# Altium footprint library Ahrist_Library.PcbLib: 172 footprints (part 6 of 11)
Each footprint in its own frame and in the unit in brackets; x right, y up, seen from the top. Pads: shape width x height; smd on the part's side, far side on the other; paste and mask are expansions set on the pad; w line width, h text height; cw(c..) or ccw(c..) is an arc to the next point about the centre after c.
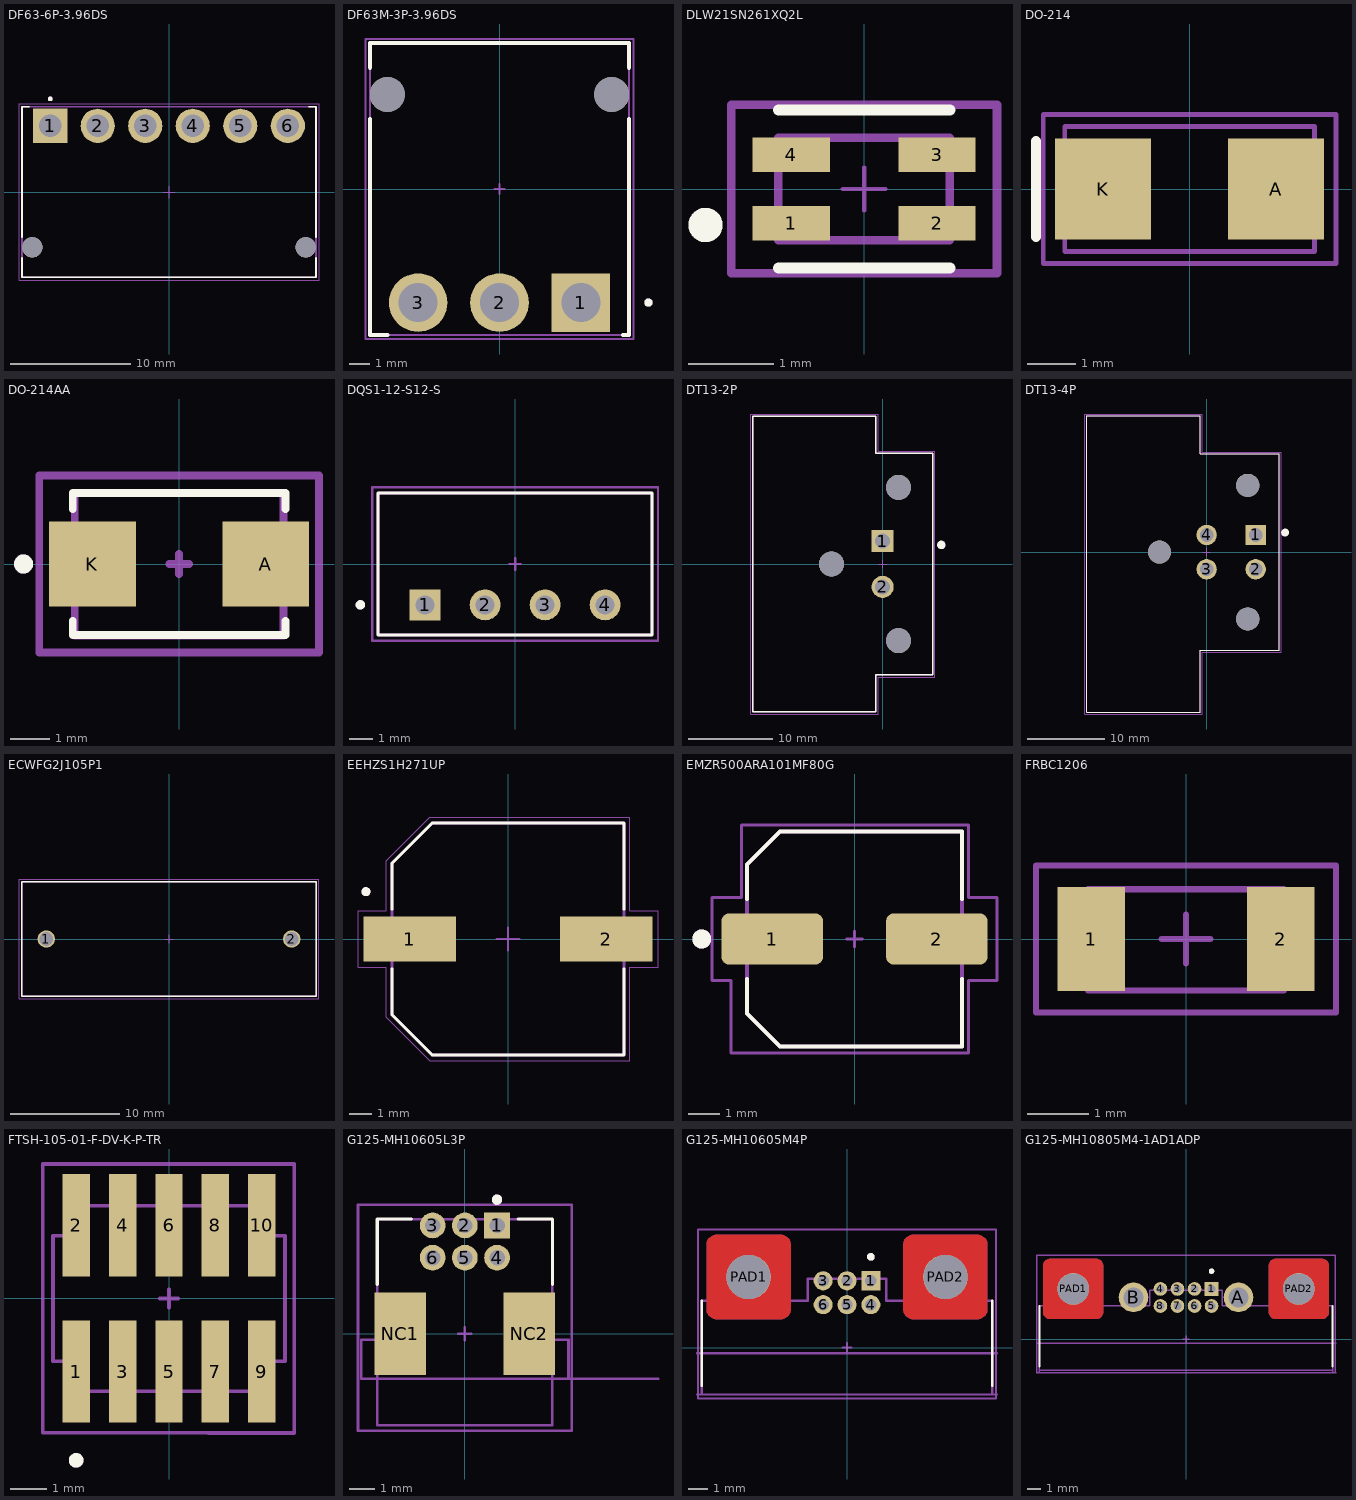
[diagram p5: the footprints below, top view; thin cyan lines are the x and y axes]

## DF63-6P-3.96DS [mm] "Connector Header Through Hole, Right Angle 6 position 0.156\" (3.96mm)"
pads (8):
  rect 2.85x2.85 / inner round 2.85 / far side rect 2.85x2.85 hole 1.9: 1(-9.9,5.53)
  round 2.85 hole 1.9: 2(-5.94,5.53) 3(-1.98,5.53) 4(1.98,5.53) 5(5.94,5.53) 6(9.9,5.53)
  round 1.7 hole 1.7 unplated: ""(-11.4,-4.6) ""(11.4,-4.6)
Top Overlay:
  circle w0.2: c-9.9,7.78 r0.1
  lines w0.127: -12.25,-5.45 -12.25,-7.1 12.25,-7.1 12.25,-5.45 ; -12.25,-3.75 -12.25,7.1 -11.639,7.1 ; 11.639,7.1 12.25,7.1 12.25,-3.75
Top Courtyard:
  lines w0.1: -12.5,-7.35 -12.5,7.35 12.5,7.35 12.5,-7.35 -12.5,-7.35
Top Assembly:
  circle w0.2: c-9.9,7.78 r0.1
  lines w0.127: -12.25,-7.1 -12.25,7.1 12.25,7.1 12.25,-7.1 -12.25,-7.1
Top Designator:
  text ".Designator" at -1.5,-0.214 h1.52
Top Component Center:
  lines w0.1: 0,-0.5 0,0 ; 0,0 0,0.5 0,0 ; 0,0 0.5,0 -0.5,0 0,0
3D body "step_temp.STEP": height 9, standoff -3.5, extent -12.25,-7.1 12.25,7.1

## DF63M-3P-3.96DS [mm] "Connector Header Through Hole, Right Angle 3 position 0.156\" (3.96mm)"
pads (5):
  rect 2.85x2.85 hole 1.9: 1(3.96,-5.53)
  round 2.85 hole 1.9: 2(0,-5.53) 3(-3.96,-5.53)
  round 1.7 hole 1.7 unplated: ""(-5.46,4.6) ""(5.46,4.6)
Top Overlay:
  circle w0.2: c7.25,-5.53 r0.1
  lines w0.2: -6.31,3.4 -6.31,-7.1 -5.46,-7.1 ; -6.31,5.9 -6.31,7.1 6.31,7.1 6.31,5.9 ; 6,-7.1 6.31,-7.1 6.31,3.4
Top Courtyard:
  lines w0.1: -6.525,-7.3 6.525,-7.3 6.525,-6.325 6.525,-6.3 6.525,7.3 -6.525,7.3 -6.525,-6.3 -6.525,-6.325 -6.525,-7.3
Top Assembly:
  circle w0.2: c7.25,-5.53 r0.1
  lines w0.1: -6.31,-7.1 6.31,-7.1 6.31,7.1 -6.31,7.1 -6.31,-7.1
Top Component Center:
  lines w0.1: 0,-0.25 0,0 ; 0,0 -0.25,0 0.25,0 0,0 ; 0,0 0,0.25 0,0
3D body "DF63M-3P-3.96DS--3DModel-STEP-1.STEP": height 9, standoff -3.5, extent -6.31,-7.1 6.31,7.1

## DLW21SN261XQ2L [mm] "Common Mode Chokes / Filters 260 OHM 25%"
pads (4):
  rect 0.9x0.4 smd paste-1 mask+0.075: 1(-0.85,-0.4) 2(0.85,-0.4) 3(0.85,0.4) 4(-0.85,0.4)
Top Overlay:
  circle w0.2: c-1.85,-0.42 r0.1
  lines w0.127: -1,-0.92 1,-0.92 ; -1,0.92 1,0.92
Top Paste:
  region: 1.3,-0.6 0.4,-0.6 0.4,-0.25 1.3,-0.25
  region: -0.4,-0.6 -1.3,-0.6 -1.3,-0.25 -0.4,-0.25
  region: 1.3,0.25 0.4,0.25 0.4,0.6 1.3,0.6
  region: -0.4,0.25 -1.3,0.25 -1.3,0.6 -0.4,0.6
Top Courtyard:
  lines w0.1: -1.55,-0.984 -1.55,0.984 1.55,0.984 1.55,-0.984 -1.55,-0.984
Top Assembly:
  lines w0.1: -1,-0.6 1,-0.6 1,0.6 -1,0.6 -1,-0.6
Top Designator:
  text ".Designator" at -0.25,-0.214 h1.52
Top Component Outline:
  lines w0.1: -1,-0.6 1,-0.6 1,0.6 -1,0.6 -1,-0.6
Top Component Center:
  lines w0.05: 0,-0.25 0,0 ; 0,0 -0.25,0 0.25,0 0,0 ; 0,0 0,0.25 0,0
3D body "step_temp.STEP": height 1.4, standoff 0, extent -1,-0.6 1,0.6

## DO-214 [mm] "Diodes Incorporated standard DO-214 footprint"
pads (2):
  rect 2x2.1 smd mask+0.075: A(1.8,0) K(-1.8,0)
Top Overlay:
  lines w0.2: -3.2,-1 -3.2,1
Top Courtyard:
  lines w0.1: -3.05,-1.55 -3.05,0.675 -3.05,1.55 -2.5,1.55 -2.3,1.55 3.05,1.55 3.05,-0.675 3.05,-1.55 2.5,-1.55 2.3,-1.55 -3.05,-1.55
Top Assembly:
  lines w0.1: -2.6,-1.3 2.6,-1.3 2.6,1.3 -2.6,1.3 -2.6,-1.3
Top Designator:
  text ".Designator" at -0.775,-0.314 h1.52
Top Component Outline:
  lines w0.05: -2.6,-1.3 2.6,-1.3 2.6,1.3 -2.6,1.3 -2.6,-1.3
3D body "B220A-13-F.STEP": height 2.4, standoff 0, extent -2.598,-1.302 2.598,1.302

## DO-214AA [mm]
pads (2):
  rect 2.2x2.15 smd mask+0.075: A(2.2,0) K(-2.2,0)
Top Overlay:
  circle w0.254: c-3.95,0 r0.114
  lines w0.2: -2.7,-1.45 -2.7,-1.8 2.7,-1.8 2.7,-1.45 ; -2.7,1.4 -2.7,1.8 2.7,1.8 2.7,1.4
Top Courtyard:
  lines w0.2: -3.55,-2.25 -3.55,2.25 3.55,2.25 3.55,-2.25 -3.55,-2.25
Top Assembly:
  circle w0.254: c-3.95,0 r0.114
  lines w0.2: -2.65,1.8 -2.65,-1.81 2.648,-1.81 2.648,1.81 -2.648,1.81 -2.412,1.81
Top Designator:
  text ".Designator" at -0.94,-0.19 h0.6
Top Component Center:
  lines w0.2: 0,-0.25 0,0 ; 0,0 -0.25,0 0.25,0 0,0 ; 0,0 0,0.25 0,0
3D body "SMB.step": height -0.4, standoff -2.6, extent -2.648,-1.81 2.648,1.81

## DQS1-12-S12-S [mm] "DC-DC ISOLATED, 1W, 10.8~13.2 VD"
pads (4):
  rect 1.308x1.308 / inner round 1.308 / far side rect 1.308x1.308 hole 0.8: 1(-3.81,-1.73)
  round 1.308 hole 0.8: 2(-1.27,-1.73) 3(1.27,-1.73) 4(3.81,-1.73)
Top Overlay:
  circle w0.2: c-6.55,-1.73 r0.1
  lines w0.127: -5.8,-3 -5.8,3 5.8,3 5.8,-3 -5.8,-3
Top Courtyard:
  lines w0.1: -6.05,-3.25 -6.05,3.25 6.05,3.25 6.05,-3.25 -6.05,-3.25
Top Assembly:
  circle w0.2: c-6.55,-1.73 r0.1
  lines w0.127: -5.8,-3 5.8,-3 5.8,3 -5.8,3 -5.8,-3
Top Designator:
  text ".Designator" at -1.09,0.11 h0.6
Top Component Outline:
  lines w0.1: -5.8,-3 5.8,-3 5.8,3 -5.8,3 -5.8,-3
Top Component Center:
  lines w0.1: 0,-0.25 0,0 ; 0,0 0,0.25 0,0 ; 0,0 0.25,0 -0.25,0 0,0
3D body "DQS1-12-S12-S.stp": height 10.2, standoff -4.1, extent -5.75,-3 5.85,3

## DT13-2P [mm]
pads (5):
  rect 2.64x2.64 hole 1.76: 1(0,2.73)
  round 2.64 hole 1.76: 2(0,-2.73)
  round 2.99 hole 2.99 unplated: ""(-6.1,0) ""(1.9,-9.155) ""(1.9,9.155)
Top Overlay:
  circle w0.5: c7,2.28 r0.25
  lines w0.152: -15.5,-17.65 -0.8,-17.65 -0.8,-13.22 5.96,-13.22 5.96,13.22 -0.8,13.22 -0.8,17.65 -15.5,17.65 -15.5,-17.65
Top Courtyard:
  lines w0.1: -15.75,-17.9 -15.75,17.9 -0.55,17.9 -0.55,13.47 6.21,13.47 6.21,-13.5 -0.55,-13.5 -0.55,-17.9 -15.75,-17.9
Top Assembly:
  lines w0.152: -15.5,-17.65 -0.8,-17.65 -0.8,-13.22 5.96,-13.22 5.96,13.22 -0.8,13.22 -0.8,17.65 -15.5,17.65 -15.5,-17.65
  text ".Designator" at -2.5,0.286 h1.52
Top Component Center:
  lines w0.1: 0,-0.5 0,0 ; 0,0 0,0.5 0,0 ; 0,0 0.5,0 -0.5,0 0,0
3D body "c-dt13-2p-99-3d.stp": height 27.72, standoff -3.04, extent -30.2,-17.653 5.868,17.653

## DT13-4P [mm] "DT13 Series 4.44mm Pitch 4 Way 2 Row Right Angle PCB Header Solder Termination"
pads (7):
  rect 2.64x2.64 hole 1.76: 1(6.35,2.225)
  round 2.64 hole 1.76: 2(6.35,-2.225) 3(0,-2.225) 4(0,2.225)
  round 2.99 hole 2.99 unplated: ""(-6.1,0) ""(5.33,-8.65) ""(5.33,8.65)
Top Overlay:
  circle w0.5: c10.16,2.54 r0.25
  lines w0.152: -15.5,-20.71 -0.8,-20.71 -0.8,-12.715 9.39,-12.715 9.39,12.715 -0.8,12.715 -0.8,17.64 -15.5,17.64 -15.5,-20.71
Top Courtyard:
  lines w0.1: -15.75,-20.96 -15.75,17.89 -0.55,17.89 -0.55,12.965 9.64,12.965 9.64,-12.965 -0.55,-12.965 -0.55,-20.96 -15.75,-20.96
Top Assembly:
  lines w0.152: -15.5,-20.71 -15.5,17.64 -0.8,17.64 -0.8,12.715 9.39,12.715 9.39,-12.715 -0.8,-12.715 -0.8,-20.71 -15.5,-20.71
  text ".Designator" at -1,-0.214 h1.52
Top Component Center:
  lines w0.1: 0,-0.5 0,0 ; 0,0 -0.5,0 0.5,0 0,0 ; 0,0 0,0.5 0,0
3D body "dt13-4p.stp": height 35.63, standoff -2.96, extent -30.1,-17.577 9.397,20.777

## ECWFG2J105P1 [mm] "1F Film Capacitor 141V 630V Polypropylene (PP), Metallized Radial"
pads (2):
  round 1.6 hole 1.25: 1(-11.25,0) 2(11.25,0)
Top Overlay:
  lines w0.127: -13.5,-5.25 13.5,-5.25 13.5,5.25 -13.5,5.25 -13.5,-5.25
Top Courtyard:
  lines w0.05: -13.75,-5.5 -13.75,5.5 13.75,5.5 13.75,-5.5 -13.75,-5.5
Top Assembly:
  lines w0.127: -13.5,-5.25 -13.5,5.25 13.5,5.25 13.5,-5.25 -13.5,-5.25
Mechanical 13:
  text ".Designator" at -1.73,-0.063 h0.5
Top Component Center:
  lines w0.1: -0.4,0 0,0 ; 0,-0.4 0,0 ; 0,0.4 0,0 ; 0.4,0 0,0
3D body "step_temp.STEP": height 19, standoff -20, extent -13.5,-5.25 13.5,5.25

## EEHZS1H271UP [mm] "270 µF 50 V Aluminum - Polymer Capacitors Radial, Can - SMD 13mOhm 4000 Hrs @ 125°C"
pads (2):
  rect 4.1x2 smd: 1(-4.35,0) 2(4.35,0)
Top Overlay:
  circle w0.2: c-6.3,2.1 r0.1
  lines w0.127: -5.15,-1.32 -5.15,-3.35 -3.35,-5.15 5.15,-5.15 5.15,-1.32 ; -5.15,1.32 -5.15,3.35 -3.35,5.15 5.15,5.15 5.15,1.32
Top Courtyard:
  lines w0.05: -6.65,-1.25 -5.4,-1.25 -5.4,-3.475 -3.475,-5.4 5.4,-5.4 5.4,-1.25 6.65,-1.25 6.65,1.25 5.4,1.25 5.4,5.4 -3.475,5.4 -5.4,3.475 -5.4,1.25 -6.65,1.25 -6.65,-1.25
Top Assembly:
  circle w0.2: c-6.3,2.1 r0.1
  lines w0.127: -5.15,-3.35 -5.15,3.35 -3.35,5.15 5.15,5.15 5.15,-5.15 -3.35,-5.15 -5.15,-3.35
Top Component Center:
  lines w0.1: 0,-0.5 0,0 ; 0,0 -0.5,0 0.5,0 0,0 ; 0,0 0,0.5 0,0
3D body "step_temp.STEP": height 16.5, standoff 0, extent -5.5,-5.15 5.5,5.15

## EMZR500ARA101MF80G [mm] "6.6mm Radial Capacitor"
pads (2):
  rrect30% 3.21x1.62 smd: 1(-2.6,0) 2(2.6,0)
Top Overlay:
  circle w0.3: c-4.826,0 r0.15
  lines w0.127: -3.4,-1.27 -3.4,-2.35 -2.35,-3.4 3.4,-3.4 3.4,-1.27 ; -3.4,1.27 -3.4,2.35 -2.35,3.4 3.4,3.4 3.4,1.27
Top Courtyard:
  lines w0.1: -4.5,-1.31 -3.9,-1.31 -3.9,-3.6 3.6,-3.6 3.6,-1.31 4.5,-1.31 4.5,1.31 3.6,1.31 3.6,3.6 -3.575,3.6 -3.575,1.31 -4.5,1.31 -4.5,-1.31
Top Assembly:
  circle w0.3: c-4.826,0 r0.15
  lines w0.127: -3.4,-2.35 -3.4,2.35 -2.35,3.4 3.4,3.4 3.4,-3.4 -2.35,-3.4 -3.4,-2.35
Top Designator:
  text ".Designator" at -0.75,-0.062 h1
Top Component Outline:
  lines w0.127: -3.4,-2.35 -3.4,2.35 -2.35,3.4 3.4,3.4 3.4,-3.4 -2.35,-3.4 -3.4,-2.35
Top Component Center:
  lines w0.1: 0,-0.25 0,0 ; 0,0 0,0.25 0,0 ; 0,0 0.25,0 -0.25,0 0,0
3D body "CAP_MZR_F80_NIP.step": height 8.05, standoff 0, extent -3.696,-3.404 3.696,3.404

## FRBC1206 [mm]
pads (2):
  rect 1.1x1.7 smd mask+0.1: 1(-1.55,0) 2(1.55,0)
Top Courtyard:
  lines w0.1: -1.5,1.2 -2.45,1.2 ; -2.45,1.2 -2.45,-1.2 2.45,-1.2 2.45,1.2 -2.45,1.2
Top Assembly:
  lines w0.1: -1.6,-0.838 -1.6,0.813 1.6,0.813 1.6,-0.838 -1.6,-0.838
Top Designator:
  text ".Designator" at -0.968,-0.303 h0.7
Top Component Center:
  lines w0.1: 0,-0.4 0,0 ; 0,0 0,0.4 0,0 ; 0,0 -0.4,0 0.4,0 0,0
3D body "ferrite_bead_1206.STEP": height 1.1, standoff 0, extent -1.564,-0.794 1.636,0.806

## FTSH-105-01-F-DV-K-P-TR [mm] "0.050\" Surface Mount Header"
pads (10):
  rect 0.75x2.8 smd paste+0 mask+0.075: 1(-2.54,-2) 2(-2.54,2) 3(-1.27,-2) 4(-1.27,2) 5(0,-2) 6(0,2) 7(1.27,-2) 8(1.27,2) 9(2.54,-2) 10(2.54,2)
Top Overlay:
  circle w0.2: c-2.54,-4.429 r0.1
Top Courtyard:
  lines w0.1: -3.45,-3.675 -3.45,3.679 3.425,3.679 3.425,-3.679 1.075,-3.679 1.075,-3.675 -1.075,-3.675 -3.45,-3.675
Top Assembly:
  circle w0.2: c-2.54,-4.429 r0.1
  lines w0.1: -3.175,-1.714 -3.175,1.714 -2.54,1.714 -2.54,2.54 2.54,2.54 2.54,1.714 3.175,1.714 3.175,-1.714 2.54,-1.714 2.54,-2.54 -2.54,-2.54 -2.54,-1.714 -3.175,-1.714
Top Component Outline:
  lines w0.1: -3.175,-1.714 -3.175,1.714 -2.54,1.714 -2.54,2.54 2.54,2.54 2.54,1.714 3.175,1.714 3.175,-1.714 2.54,-1.714 2.54,-2.54 -2.54,-2.54 -2.54,-1.714 -3.175,-1.714
Top Component Center:
  lines w0.1: 0,-0.25 0,0 ; 0,0.25 0,0 ; 0,0 0.25,0 0,0 ; 0,0 -0.25,0 0,0
3D body "FTSH-105-01-F-DV-K-P-TR.stp": height 6.58, standoff -0.41, extent -3.175,-4.445 3.175,2.921

## G125-MH10605L3P [mm] "Harwin Gecko 6 Pin Right Angle Latch"
pads (8):
  rect 1x1 / inner round 1 / far side rect 1x1 hole 0.6 mask+0.05: 1(1.25,4.2)
  round 1 hole 0.6 mask+0.05: 2(0,4.2) 3(-1.25,4.2) 4(1.25,2.95) 5(0,2.95) 6(-1.25,2.95)
  rect 2x3.2 smd mask+0.05: NC1(-2.5,0) NC2(2.5,0)
Top Overlay:
  circle w0.2: c1.25,5.2 r0.1
  lines w0.127: -3.4,1.92 -3.4,4.45 -2.07,4.45 ; 2.07,4.45 3.4,4.45 3.4,1.92
Top Assembly:
  circle w0.2: c1.25,5.2 r0.1
  lines w0.1: 7.5,-1.75 4.025,-1.75 ; -3.4,-1.75 -3.4,-0.23 ; -3.4,-1.75 3.4,-1.75 ; -3.4,-1.75 -4.025,-1.75 -4.025,-0.23 -3.4,-0.23 ; -3.4,-1.75 -3.4,-3.55 3.4,-3.55 3.4,-1.75 ; -3.4,-0.23 -3.4,4.45 3.4,4.45 3.4,-0.23 ; 3.4,-1.75 4.025,-1.75 ; 3.4,-1.75 3.4,-0.23 ; 3.4,-0.23 4.025,-0.23 4.025,-1.75
  text "PCB EDGE" at 4.5,-1.5 h1.02
Top Designator:
  text ".Designator" at -0.68,-0.013 h0.5
Top Component Outline:
  lines w0.1: -3.4,-3.55 -3.4,4.45 3.4,4.45 3.4,-3.55 -3.4,-3.55
Mechanical 15:
  lines w0.1: -4.15,-3.775 -4.15,5 4.15,5 4.15,-3.775 -4.15,-3.775
Top Component Center:
  lines w0.1: 0,-0.25 0,0 ; 0,0 0,0.25 0,0 ; 0,0 0.25,0 -0.25,0 0,0
3D body "G125-MH10605L3_asm.stp": height 5.65, standoff -3.1, extent -3.94,-3.57 3.94,4.63

## G125-MH10605M4P [mm]
pads (8):
  rect 1x1 / inner round 1 / far side rect 1x1 hole 0.6 mask+0.05: 1(1.25,3.5)
  round 1 hole 0.6 mask+0.05: 2(0,3.5) 3(-1.25,3.5) 4(1.25,2.25) 5(0,2.25) 6(-1.25,2.25)
  round 2.325 hole 2.3 mask+0.05: PAD1(-5.15,3.7) PAD2(5.15,3.7)
Top Layer:
  region: 3.45,1.5 3.401,1.5 3.304,1.519 3.213,1.557 3.131,1.612 3.062,1.681 3.007,1.763 2.969,1.854 2.95,1.951 2.95,2 2.95,5.4 2.95,5.449 2.969,5.546 3.007,5.637 3.062,5.719 3.131,5.788 3.213,5.843 3.304,5.881 3.401,5.9 3.45,5.9 6.85,5.9 6.899,5.9 6.996,5.881 7.087,5.843 7.169,5.788 7.238,5.719 7.293,5.637 7.331,5.546 7.35,5.449 7.35,5.4 7.35,2 7.35,1.951 7.331,1.854 7.293,1.763 7.238,1.681 7.169,1.612 7.087,1.557 6.996,1.519 6.899,1.5 6.85,1.5
  region: -6.85,1.5 -6.899,1.5 -6.996,1.519 -7.087,1.557 -7.169,1.612 -7.238,1.681 -7.293,1.763 -7.331,1.854 -7.35,1.951 -7.35,2 -7.35,5.4 -7.35,5.449 -7.331,5.546 -7.293,5.637 -7.238,5.719 -7.169,5.788 -7.087,5.843 -6.996,5.881 -6.899,5.9 -6.85,5.9 -3.45,5.9 -3.401,5.9 -3.304,5.881 -3.213,5.843 -3.131,5.788 -3.062,5.719 -3.007,5.637 -2.969,5.546 -2.95,5.449 -2.95,5.4 -2.95,2 -2.95,1.951 -2.969,1.854 -3.007,1.763 -3.062,1.681 -3.131,1.612 -3.213,1.557 -3.304,1.519 -3.401,1.5 -3.45,1.5
Bottom Layer:
  region: 3.45,1.5 3.401,1.5 3.304,1.519 3.213,1.557 3.131,1.612 3.062,1.681 3.007,1.763 2.969,1.854 2.95,1.951 2.95,2 2.95,5.4 2.95,5.449 2.969,5.546 3.007,5.637 3.062,5.719 3.131,5.788 3.213,5.843 3.304,5.881 3.401,5.9 3.45,5.9 6.85,5.9 6.899,5.9 6.996,5.881 7.087,5.843 7.169,5.788 7.238,5.719 7.293,5.637 7.331,5.546 7.35,5.449 7.35,5.4 7.35,2 7.35,1.951 7.331,1.854 7.293,1.763 7.238,1.681 7.169,1.612 7.087,1.557 6.996,1.519 6.899,1.5 6.85,1.5
  region: -6.85,1.5 -6.899,1.5 -6.996,1.519 -7.087,1.557 -7.169,1.612 -7.238,1.681 -7.293,1.763 -7.331,1.854 -7.35,1.951 -7.35,2 -7.35,5.4 -7.35,5.449 -7.331,5.546 -7.293,5.637 -7.238,5.719 -7.169,5.788 -7.087,5.843 -6.996,5.881 -6.899,5.9 -6.85,5.9 -3.45,5.9 -3.401,5.9 -3.304,5.881 -3.213,5.843 -3.131,5.788 -3.062,5.719 -3.007,5.637 -2.969,5.546 -2.95,5.449 -2.95,5.4 -2.95,2 -2.95,1.951 -2.969,1.854 -3.007,1.763 -3.062,1.681 -3.131,1.612 -3.213,1.557 -3.304,1.519 -3.401,1.5 -3.45,1.5
Top Overlay:
  circle w0.2: c1.25,4.75 r0.1
  lines w0.15: -7.6,-1.975 -7.6,2.45 ; 7.6,-1.975 7.6,2.45
Top Courtyard:
  lines w0.1: -7.5,-2.65 7.8,-2.65 7.8,6.175 -2.375,6.175 -7.8,6.175 -7.8,-2.65 -7.475,-2.65
Top Assembly:
  circle w0.2: c1.25,4.75 r0.1
  lines w0.127: -7.85,-2.45 7.85,-2.45 ; -7.85,-0.3 7.85,-0.3 ; -7.6,-2.45 7.6,-2.45 7.6,2.45 2.05,2.45 2.05,3.6 -2.05,3.6 -2.05,2.45 -7.6,2.45 -7.6,-2.45
  text "PCB edge (Shielded)" at -7,-1 h0.4
  text "PCB edge (Unshielded)" at -7,-3 h0.4
Top Designator:
  text ".Designator" at -0.5,0.112 h0.6
Top Component Outline:
  lines w0.127: -7.6,-2.45 7.6,-2.45 7.6,2.45 2.05,2.45 2.05,3.6 -2.05,3.6 -2.05,2.45 -7.6,2.45 -7.6,-2.45
Top Component Center:
  lines w0.1: 0,-0.25 0,0 ; 0,0 -0.25,0 0,0 ; 0,0 0.25,0 0,0 ; 0,0 0,0.25 0,0
3D body "step_temp.STEP": height 5.25, standoff -3.3, extent -7.6,-2.45 7.6,5.25

## G125-MH10805M4-1AD1ADP [mm] "Harwin Gecko 8 Signal 2 P{ower"
pads (12):
  rect 1x1 / inner round 1 / far side rect 1x1 hole 0.6 mask+0.05: 1(1.875,3.7)
  round 1 hole 0.6 mask+0.05: 2(0.625,3.7) 3(-0.625,3.7) 4(-1.875,3.7) 5(1.875,2.45) 6(0.625,2.45) 7(-0.625,2.45) 8(-1.875,2.45)
  round 2.175 hole 1.45 mask+0.05: A(3.85,3.08) B(-3.85,3.08)
  round 2.325 hole 2.3 mask+0.05: PAD1(-8.275,3.7) PAD2(8.275,3.7)
Top Layer:
  region: 6.575,1.5 6.526,1.5 6.429,1.519 6.338,1.557 6.256,1.612 6.187,1.681 6.132,1.763 6.094,1.854 6.075,1.951 6.075,2 6.075,5.4 6.075,5.449 6.094,5.546 6.132,5.637 6.187,5.719 6.256,5.788 6.338,5.843 6.429,5.881 6.526,5.9 6.575,5.9 9.975,5.9 10.024,5.9 10.121,5.881 10.212,5.843 10.294,5.788 10.363,5.719 10.418,5.637 10.456,5.546 10.475,5.449 10.475,5.4 10.475,2 10.475,1.951 10.456,1.854 10.418,1.763 10.363,1.681 10.294,1.612 10.212,1.557 10.121,1.519 10.024,1.5 9.975,1.5
  region: -9.975,1.5 -10.024,1.5 -10.121,1.519 -10.212,1.557 -10.294,1.612 -10.363,1.681 -10.418,1.763 -10.456,1.854 -10.475,1.951 -10.475,2 -10.475,5.4 -10.475,5.449 -10.456,5.546 -10.418,5.637 -10.363,5.719 -10.294,5.788 -10.212,5.843 -10.121,5.881 -10.024,5.9 -9.975,5.9 -6.575,5.9 -6.526,5.9 -6.429,5.881 -6.338,5.843 -6.256,5.788 -6.187,5.719 -6.132,5.637 -6.094,5.546 -6.075,5.449 -6.075,5.4 -6.075,2 -6.075,1.951 -6.094,1.854 -6.132,1.763 -6.187,1.681 -6.256,1.612 -6.338,1.557 -6.429,1.519 -6.526,1.5 -6.575,1.5
Bottom Layer:
  region: 6.575,1.5 6.526,1.5 6.429,1.519 6.338,1.557 6.256,1.612 6.187,1.681 6.132,1.763 6.094,1.854 6.075,1.951 6.075,2 6.075,5.4 6.075,5.449 6.094,5.546 6.132,5.637 6.187,5.719 6.256,5.788 6.338,5.843 6.429,5.881 6.526,5.9 6.575,5.9 9.975,5.9 10.024,5.9 10.121,5.881 10.212,5.843 10.294,5.788 10.363,5.719 10.418,5.637 10.456,5.546 10.475,5.449 10.475,5.4 10.475,2 10.475,1.951 10.456,1.854 10.418,1.763 10.363,1.681 10.294,1.612 10.212,1.557 10.121,1.519 10.024,1.5 9.975,1.5
  region: -9.975,1.5 -10.024,1.5 -10.121,1.519 -10.212,1.557 -10.294,1.612 -10.363,1.681 -10.418,1.763 -10.456,1.854 -10.475,1.951 -10.475,2 -10.475,5.4 -10.475,5.449 -10.456,5.546 -10.418,5.637 -10.363,5.719 -10.294,5.788 -10.212,5.843 -10.121,5.881 -10.024,5.9 -9.975,5.9 -6.575,5.9 -6.526,5.9 -6.429,5.881 -6.338,5.843 -6.256,5.788 -6.187,5.719 -6.132,5.637 -6.094,5.546 -6.075,5.449 -6.075,5.4 -6.075,2 -6.075,1.951 -6.094,1.854 -6.132,1.763 -6.187,1.681 -6.256,1.612 -6.338,1.557 -6.429,1.519 -6.526,1.5 -6.575,1.5
Top Overlay:
  circle w0.2: c1.875,5 r0.1
  lines w0.15: -10.75,-1.975 -10.75,2.45 ; 10.75,-1.975 10.75,2.45
Top Courtyard:
  lines w0.1: -10.95,-2.45 -10.95,6.175 10.95,6.175 10.95,-2.45 -10.95,-2.45
Top Assembly:
  circle w0.2: c1.875,5 r0.1
  lines w0.1: -11,-2.45 -10.75,-2.45 ; -11,-0.3 11,-0.3 ; 11,-2.45 10.75,-2.45 ; -10.75,-2.45 -10.75,2.45 -2.675,2.45 -2.675,3.6 2.675,3.6 2.675,2.45 10.75,2.45 10.75,-2.45 ; -10.75,-2.45 10.75,-2.45
  text "PCB edge for Unshielded Cable" at -9.225,-3.15 h0.5
  text "PCB edge for Shielded Cable" at -9.175,-0.975 h0.5
Top Designator:
  text ".Designator" at -1.025,-0.018 h1.5
Top Component Outline:
  lines w0.1: -10.75,-2.25 -10.75,2.45 -2.675,2.45 -2.675,3.6 2.675,3.6 2.675,2.45 10.75,2.45 10.75,-2.25 -10.75,-2.25
Top Component Center:
  lines w0.1: -0.25,0 0,0 ; 0,-0.25 0,0 ; 0,0 0,0.25 0,0 ; 0,0 0.25,0 0,0
3D body "G125-MH10805M4-1AD1AD_asm.stp": height 5.36, standoff -3.4, extent -10.725,-2.25 10.725,5.45